# Altium schematic symbol library NS8002.SchLib: 1 symbol
Pins are listed as number, name and electrical type; pins without a type are passive.

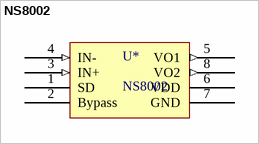
[diagram p0: symbol NS8002]

## NS8002
designator U*
footprint NS8002 (Class AB 1.8W x 1 @ 4O 3V ~ 5.25V SOP-8_EP_150mil Audio Power OpAmps RoHSm, IPC Medium Density)
pins: 1 SD, 2 Bypass, 3 IN+ (in), 4 IN- (in), 5 VO1 (out), 6 VDD (power), 7 GND, 8 VO2 (out)